# Altium footprint library VR.PcbLib: 1 footprints
Each footprint in its own frame and in the unit in brackets; x right, y up, seen from the top. Pads: shape width x height; smd on the part's side, far side on the other; paste and mask are expansions set on the pad; w line width, h text height; cw(c..) or ccw(c..) is an arc to the next point about the centre after c.
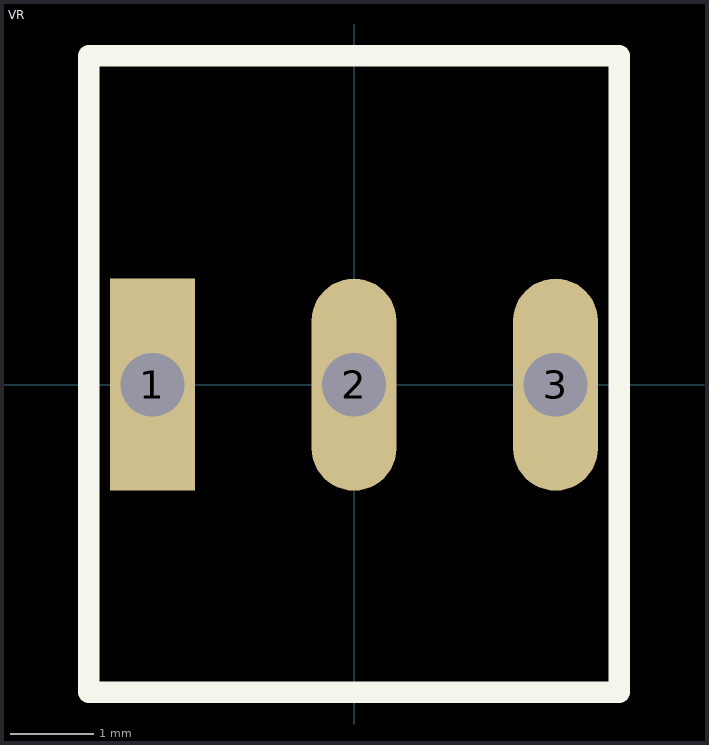
[diagram p0: the footprint, top view; thin cyan lines are the x and y axes]

## VR [mil] "电位器"
pads (3):
  rect 40x100 hole 30: 1(-95,0)
  oval 40x100 hole 30: 2(0,0) 3(95,0)
Top Overlay:
  lines w10: -125,-145 125,-145 125,155 -125,155 -125,-145